# EAGLE library part FFC3B07-30-T (library FFC3B07-30-T)
FPC 1.0mm Pitch, Side entry, Top contact, SMT, Height 2.5mm, Slide type Check availability <https://pricing.snapeda.com/parts/FFC3B07-30-T/Global%20Connector%20Technology/view-part?ref=eda>
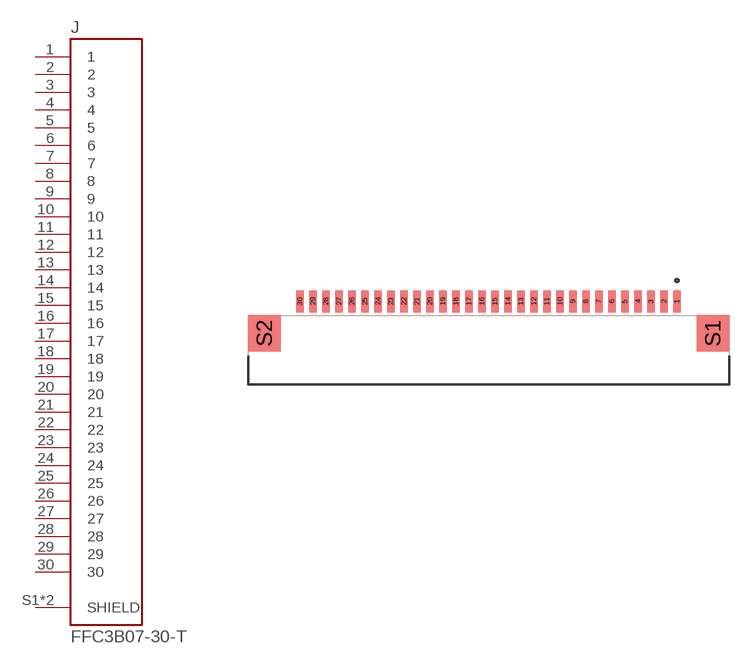
[diagram p0: symbol with the pads of GCT_FFC3B07-30-T; footprint GCT_FFC3B07-30-T]

Designator prefix J

## FFC3B07-30-T (Availability: In Stock; Description: 30 Position FFC, FPC Connector Contacts, Bottom 0.039 (1.00mm) Surface Mount, Right Angle; MF: Global Connector Technology; MP: FFC3B07-30-T; Package: None; Price: None)  [GCT_FFC3B07-30-T]
1  1  pas
2  2  pas
3  3  pas
4  4  pas
5  5  pas
6  6  pas
7  7  pas
8  8  pas
9  9  pas
10  10  pas
11  11  pas
12  12  pas
13  13  pas
14  14  pas
15  15  pas
16  16  pas
17  17  pas
18  18  pas
19  19  pas
20  20  pas
21  21  pas
22  22  pas
23  23  pas
24  24  pas
25  25  pas
26  26  pas
27  27  pas
28  28  pas
29  29  pas
30  30  pas
S1  SHIELD  pas
S2  SHIELD  pas

## Footprint GCT_FFC3B07-30-T (pad centres in mm)
smd 0.6 x 1.7: 1 14.5,2.45; 2 13.5,2.45; 3 12.5,2.45; 4 11.5,2.45; 5 10.5,2.45; 6 9.5,2.45; 7 8.5,2.45; 8 7.5,2.45; 9 6.5,2.45; 10 5.5,2.45; 11 4.5,2.45; 12 3.5,2.45; 13 2.5,2.45; 14 1.5,2.45; 15 0.5,2.45; 16 -0.5,2.45; 17 -1.5,2.45; 18 -2.5,2.45; 19 -3.5,2.45; 20 -4.5,2.45; 21 -5.5,2.45; 22 -6.5,2.45; 23 -7.5,2.45; 24 -8.5,2.45; 25 -9.5,2.45; 26 -10.5,2.45; 27 -11.5,2.45; 28 -12.5,2.45; 29 -13.5,2.45; 30 -14.5,2.45
smd 2.5 x 2.8: S1 17.25,0; S2 -17.25,0